# EAGLE library part MICROMATCH-14 (library con-amp-micromatch)
MicroMaTch 14 8-215464-4 / 1-215464-4 Drawing Number C-215464 DDEController.pdf
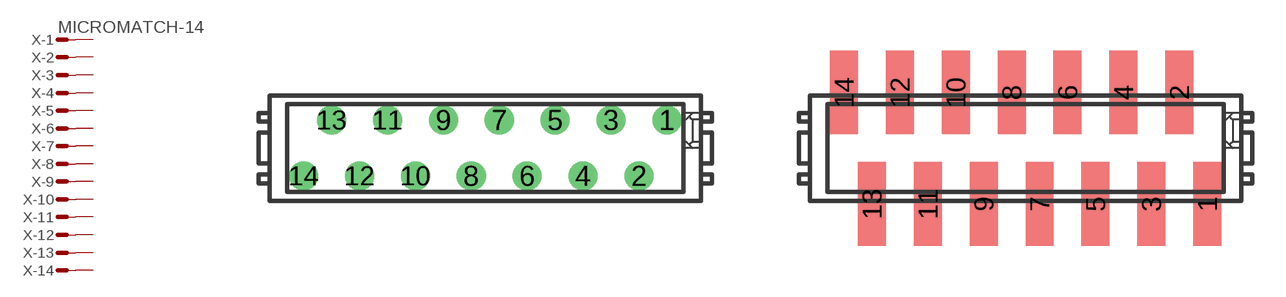
[diagram p3: symbol with the pads of MICROMATCH-14; footprints MICROMATCH-14, MICROMATCH-14SMD]

Designator prefix X; gates -1=MV -2=M -3=M -4=M -5=M -6=M -7=M -8=M -9=M -10=M -11=M -12=M -13=M -14=M

## MICROMATCH-14  [MICROMATCH-14]
1  -1:S  pas
2  -2:S  pas
3  -3:S  pas
4  -4:S  pas
5  -5:S  pas
6  -6:S  pas
7  -7:S  pas
8  -8:S  pas
9  -9:S  pas
10  -10:S  pas
11  -11:S  pas
12  -12:S  pas
13  -13:S  pas
14  -14:S  pas

## MICROMATCH-14SMD  [MICROMATCH-14SMD]
Pads as for MICROMATCH-14

## Footprint MICROMATCH-14 (pad centres in mm)
MicroMaTch 14 8-215464-4 / 1-215464-4 Drawing Number C-215464 DDEController.pdf
drill 0.813 round: 1 8.255,1.27; 2 6.985,-1.27; 3 5.715,1.27; 4 4.445,-1.27; 5 3.175,1.27; 6 1.905,-1.27; 7 0.635,1.27; 8 -0.635,-1.27; 9 -1.905,1.27; 10 -3.175,-1.27; 11 -4.445,1.27; 12 -5.715,-1.27; 13 -6.985,1.27; 14 -8.255,-1.27

## Footprint MICROMATCH-14SMD (pad centres in mm)
smd 1.27 x 3.81: 1 8.255,-2.54; 2 6.985,2.54; 3 5.715,-2.54; 4 4.445,2.54; 5 3.175,-2.54; 6 1.905,2.54; 7 0.635,-2.54; 8 -0.635,2.54; 9 -1.905,-2.54; 10 -3.175,2.54; 11 -4.445,-2.54; 12 -5.715,2.54; 13 -6.985,-2.54; 14 -8.255,2.54